# Altium footprint library USB-A-SMT.PcbLib: 2 footprints
Each footprint in its own frame and in the unit in brackets; x right, y up, seen from the top. Pads: shape width x height; smd on the part's side, far side on the other; paste and mask are expansions set on the pad; w line width, h text height; cw(c..) or ccw(c..) is an arc to the next point about the centre after c.
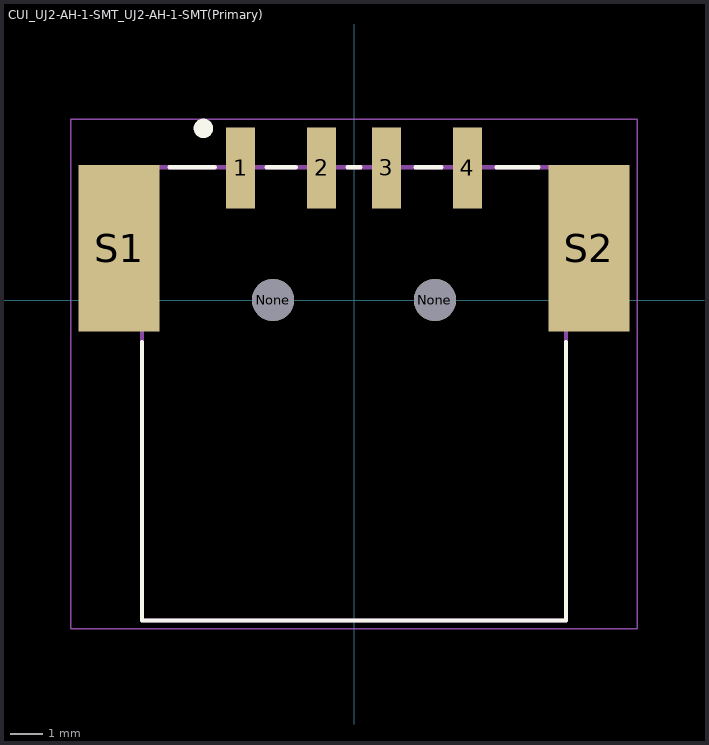
[diagram p0: the footprints below, top view; thin cyan lines are the x and y axes]

## CUI_UJ2-AH-1-SMT_UJ2-AH-1-SMT(Primary) [mm]
pads (8):
  rect 0.9x2.5 smd: 1(-3.5,4.08) 2(-1,4.08) 3(1,4.08) 4(3.5,4.08)
  round 1.3 hole 1.3 unplated: None(-2.5,0) None(2.5,0)
  rect 2.5x5.15 smd: S1(-7.25,1.6) S2(7.25,1.6)
Top Overlay:
  circle w0.3: c-4.65,5.3 r0.15
  lines w0.127: -6.55,-1.3 -6.55,-9.9 6.55,-9.9 6.55,-1.3 ; -5.7,4.1 -4.3,4.1 ; -2.7,4.1 -1.8,4.1 ; -0.2,4.1 0.2,4.1 ; 1.9,4.1 2.7,4.1 ; 4.4,4.1 5.7,4.1
Mechanical 4:
  lines w0.127: -6.55,-9.9 6.55,-9.9 ; -6.55,-9.9 -6.55,4.1 ; -6.55,-9.9 6.55,-9.9 ; -6.55,-9.9 -6.55,4.1 ; -6.55,4.1 6.55,4.1 ; -6.55,4.1 6.55,4.1 ; 6.55,-9.9 6.55,4.1 ; 6.55,-9.9 6.55,4.1
Mechanical 16:
  lines w0.05: -8.75,-10.15 8.75,-10.15 8.75,5.58 -8.75,5.58 -8.75,-10.15
3D body "USB-A-SMT.sldprt": height 7.6, standoff -0.8, extent -8.001,-9.94 7.899,4.86

## PCBComponent_1 [mm]